# Altium schematic symbol library Amplifier_Video.SchLib: 3 symbols
Pins are listed as number, name and electrical type; pins without a type are passive.

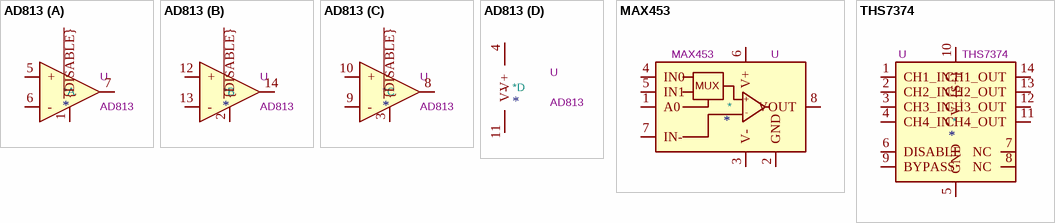
[diagram p0: symbols AD813 to THS7374]

## AD813
designator *  value AD813  Reference: U
Single Supply, Low Power, Triple Video Amplifier, DIP-14/SOIC-14; ki_keywords: triple opamp; ki_fp_filters: SOIC*P1.27mm* DIP*W7.62mm*; Datasheet: https://www.analog.com/media/en/technical-documentation/data-sheets/AD813.pdf; Description_: Single Supply, Low Power, Triple Video Amplifier, DIP-14/SOIC-14
part A pins: 1 ~{{DISABLE}}, 5 +, 6 -, 7
part B pins: 2 ~{{DISABLE}}, 12 +, 13 -, 14
part C pins: 3 ~{{DISABLE}}, 8, 9 -, 10 +
part D pins: 4 V+, 11 V-

## MAX453
designator *  value MAX453  Reference: U
CMOS video amplifier with input multiplexer, DIP-8/SOIC-8; ki_fp_filters: DIP*W7.62mm* SOIC*3.9x4.9mm*P1.27mm*; Datasheet: https://datasheets.maximintegrated.com/en/ds/MAX452-MAX455.pdf; Description_: CMOS video amplifier with input multiplexer, DIP-8/SOIC-8; ki_keywords: amplifier
pins: 1 A0, 2 GND, 3 V-, 4 IN0, 5 IN1, 6 V+, 7 IN-, 8 VOUT
text: MUX; +; -

## THS7374
designator *  value THS7374  Reference: U
4 channel SDTV Video Amplifier, TSSOP-14; ki_keywords: video amplifier sdtv cvbs rgb ypbpr; ki_fp_filters: TSSOP*4.4x5mm*P0.65mm*; Footprint: Package_SO:TSSOP-14_4.4x5mm_P0.65mm; Datasheet: https://www.ti.com/lit/ds/symlink/ths7374.pdf; Description_: 4 channel SDTV Video Amplifier, TSSOP-14
pins: 1 CH1_IN, 2 CH2_IN, 3 CH3_IN, 4 CH4_IN, 5 GND, 6 DISABLE, 7 NC, 8 NC, 9 BYPASS, 10 V_{S+}, 11 CH4_OUT, 12 CH3_OUT, 13 CH2_OUT, 14 CH1_OUT